# Altium footprint library ConnHDR_SMD.PcbLib: 2 footprints
Each footprint in its own frame and in the unit in brackets; x right, y up, seen from the top. Pads: shape width x height; smd on the part's side, far side on the other; paste and mask are expansions set on the pad; w line width, h text height; cw(c..) or ccw(c..) is an arc to the next point about the centre after c.
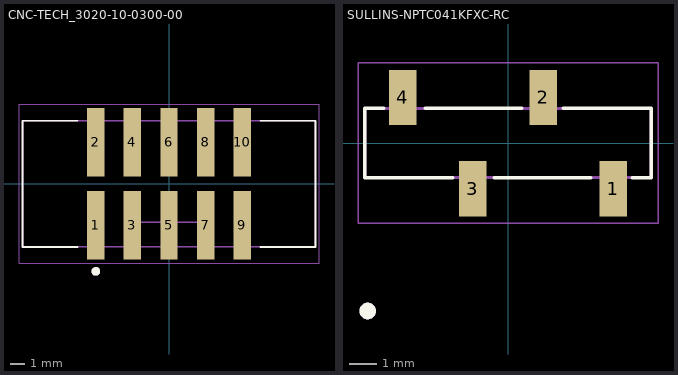
[diagram p0: the footprints below, top view; thin cyan lines are the x and y axes]

## CNC-TECH_3020-10-0300-00 [mm] "CONN HEADER SMD 10POS 2.54MM"
pads (10):
  rect 1.2x4.75 smd mask+0.05: 1(-5.08,-2.875) 2(-5.08,2.875) 3(-2.54,-2.875) 4(-2.54,2.875) 5(0,-2.875) 6(0,2.875) 7(2.54,-2.875) 8(2.54,2.875) 9(5.08,-2.875) 10(5.08,2.875)
Top Overlay:
  circle w0.3: c-5.075,-6.075 r0.15
  lines w0.127: -6.35,-4.375 -10.16,-4.375 -10.16,4.375 -6.35,4.375 ; 6.35,-4.375 10.16,-4.375 10.16,4.375 6.35,4.375
Mechanical 1:
  circle w0.3: c-5.075,-6.075 r0.15
  lines w0.1: -10.15,-4.375 10.15,-4.375 10.15,4.375 -10.15,4.375 -10.15,-4.375 ; -2.4,-4.375 2.4,-4.375 2.4,-2.675 -2.4,-2.675 -2.4,-4.375
Mechanical 15:
  lines w0.05: -10.4,-5.5 -10.4,5.5 10.4,5.5 10.4,-5.5 -10.4,-5.5
3D body "3020-10-0300-00 3D.STEP": height 10.4, standoff 0.06, extent -10.161,-4.77 10.159,4.73

## SULLINS-NPTC041KFXC-RC [mm] "CONN HDR 4POS 0.1 TIN SMD"
pads (4):
  rect 1x2 smd mask+0.05: 1(3.81,-1.65) 2(1.27,1.65) 3(-1.27,-1.65) 4(-3.81,1.65)
Top Overlay:
  circle w0.3: c-5.075,-6.075 r0.15
  lines w0.127: -4.5,1.25 -5.175,1.25 -5.175,-1.25 -2,-1.25 ; -3,1.25 0.5,1.25 ; -0.5,-1.25 3,-1.25 ; 2,1.25 5.175,1.25 5.175,-1.25 4.5,-1.25
Mechanical 1:
  circle w0.3: c-5.075,-6.075 r0.15
  lines w0.1: -5.175,-1.25 5.175,-1.25 5.175,1.25 -5.175,1.25 -5.175,-1.25
Mechanical 15:
  lines w0.05: -5.425,-2.9 -5.425,2.9 5.425,2.9 5.425,-2.9 -5.425,-2.9
3D body "_ _ _C041KFXC-RC.STEP": height 7.55, standoff 0.05, extent -5.1,-2.15 5.06,2.15